# Altium footprint library Erick.PcbLib: 25 footprints (part 2 of 2)
Each footprint in its own frame and in the unit in brackets; x right, y up, seen from the top. Pads: shape width x height; smd on the part's side, far side on the other; paste and mask are expansions set on the pad; w line width, h text height; cw(c..) or ccw(c..) is an arc to the next point about the centre after c.
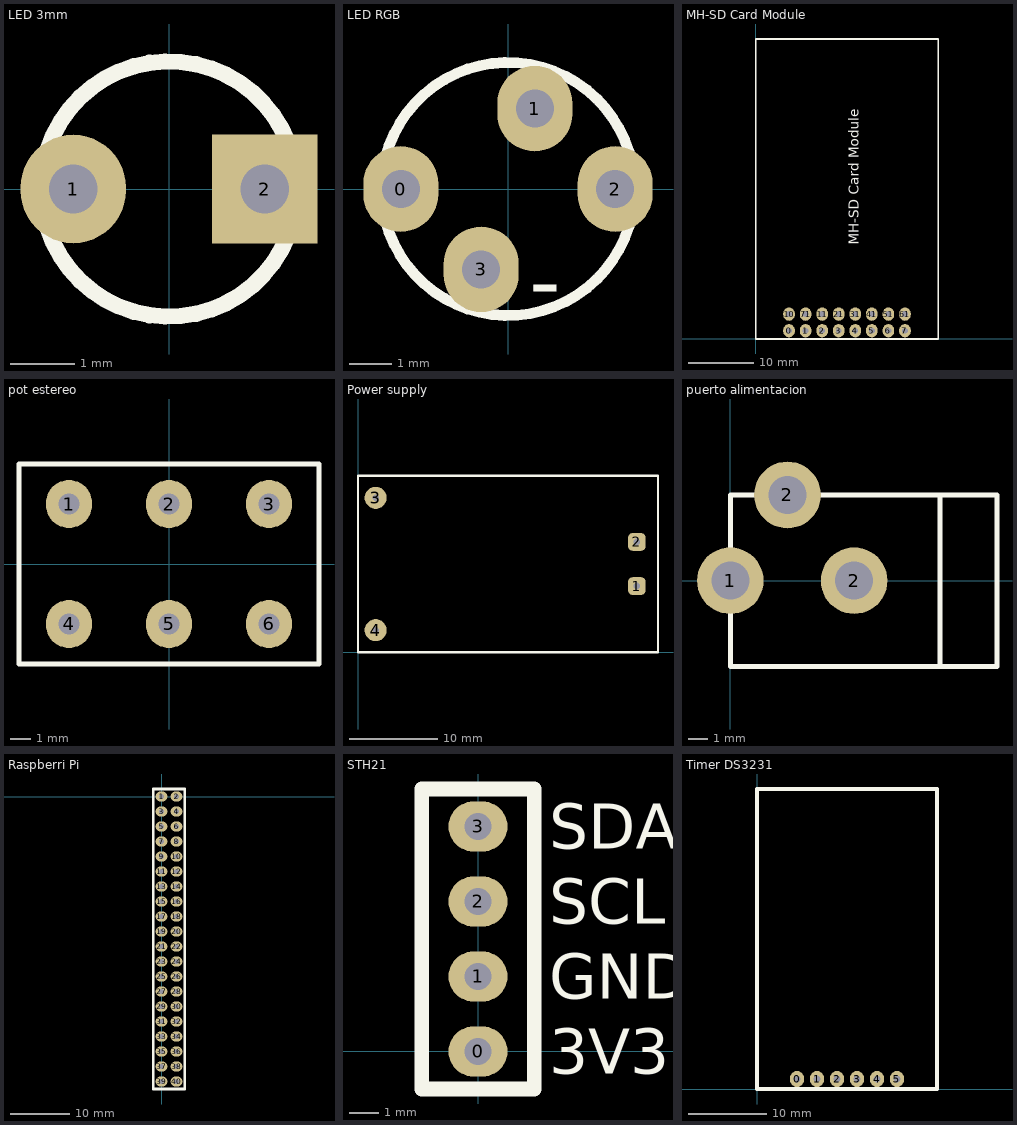
[diagram p1: the footprints below, top view; thin cyan lines are the x and y axes]

## LED 3mm [mm]
pads (2):
  oval 1.65x1.7 hole 0.762: 1(-1.5,0)
  rect 1.65x1.7 hole 0.762: 2(1.5,0)
Top Overlay:
  circle w0.254: c0,0 r2

## LED RGB [mil]
pads (4):
  oval 70x80 hole 35.43: 0(-100,0) 1(25,75) 2(100,0) 3(-25,-75)
Top Overlay:
  circle w10: c0,0 r118.11
  text "-" at 20,-114.99 h60

## MH-SD Card Module [mil]
pads (16):
  oval 70x80 hole 35.43: 0(200,50) 1(300,50) 2(400,50) 3(500,50) 4(600,50) 5(700,50) 6(800,50) 7(900,50) 10(200,150) 11(400,150) 21(500,150) 31(600,150) 41(700,150) 51(800,150) 61(900,150) 71(300,150)
Top Overlay:
  lines w10: 0,0 1100,0 1100,1811.02 0,1811.02 0,0
  text "MH-SD Card Module" at 620,570 h60

## pot estereo [mm]
pads (6):
  oval 2.3x2.4 hole 1.05: 1(-5,3) 2(0,3) 3(5,3) 4(-5,-3) 5(0,-3) 6(5,-3)
Top Overlay:
  lines w0.254: -7.5,-5 -7.5,5 7.5,5 7.5,-5 -7.5,-5

## Power supply [mm]
pads (4):
  rrect50% 2x2 hole 0.762: 1(31.6,7.5) 2(31.6,12.5)
  round 2.5 hole 0.762: 3(2,17.5) 4(2,2.5)
Top Overlay:
  lines w0.254: 0,0 34,0 34,20 0,20 0,0

## puerto alimentacion [mm]
pads (3):
  round 3.5 hole 2: 1(0,0) 2(3,4.5) 2(6.5,0)
Top Overlay:
  lines w0.254: 11,-4.5 11,4.5 ; 0,-4.5 14,-4.5 14,4.5 0,4.5 0,-4.5

## Raspberri Pi [mm]
pads (40):
  oval 2x1.7 hole 0.9: 1(0,0) 2(2.54,0) 3(0,-2.54) 4(2.54,-2.54) 5(0,-5.08) 6(2.54,-5.08) 7(0,-7.62) 8(2.54,-7.62) 9(0,-10.16) 10(2.54,-10.16) 11(0,-12.7) 12(2.54,-12.7) 13(0,-15.24) 14(2.54,-15.24) 15(0,-17.78) 16(2.54,-17.78) 17(0,-20.32) 18(2.54,-20.32) 19(0,-22.86) 20(2.54,-22.86) 21(0,-25.4) 22(2.54,-25.4) 23(0,-27.94) 24(2.54,-27.94) 25(0,-30.48) 26(2.54,-30.48) 27(0,-33.02) 28(2.54,-33.02) 29(0,-35.56) 30(2.54,-35.56) 31(0,-38.1) 32(2.54,-38.1) 33(0,-40.64) 34(2.54,-40.64) 35(0,-43.18) 36(2.54,-43.18) 37(0,-45.72) 38(2.54,-45.72) 39(0,-48.26) 40(2.54,-48.26)
Top Overlay:
  lines w0.5: -1.397,-49.53 -1.397,-49.403 -1.397,1.27 3.937,1.27 3.937,-49.53 -1.397,-49.53

## STH21 [mm]
pads (4):
  oval 2x1.7 hole 0.9: 0(0,0) 1(0,2.54) 2(0,5.08) 3(0,7.62)
Top Overlay:
  lines w0.5: -1.905,-1.27 -1.905,8.89 1.905,8.89 1.905,-1.27 -1.905,-1.27
  text "SDA" at 2.413,6.858 h1.52
  text "SCL" at 2.413,4.318 h1.52
  text "GND" at 2.413,1.778 h1.52
  text "3V3" at 2.413,-0.762 h1.52

## Timer DS3231 [mil]
pads (6):
  oval 70x80 hole 35.43: 0(200,50) 1(300,50) 2(400,50) 3(500,50) 4(600,50) 5(700,50)
Top Overlay:
  lines w19.68: 0,0 900,0 900,1500 0,1500 0,0